# Altium footprint library 118.PcbLib: 1 footprints
Each footprint in its own frame and in the unit in brackets; x right, y up, seen from the top. Pads: shape width x height; smd on the part's side, far side on the other; paste and mask are expansions set on the pad; w line width, h text height; cw(c..) or ccw(c..) is an arc to the next point about the centre after c.
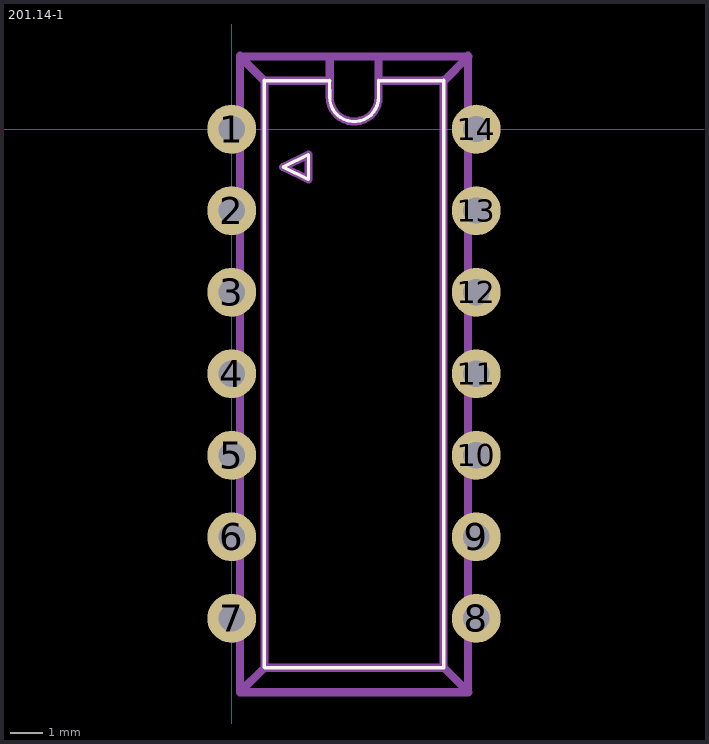
[diagram p0: the footprint, top view; thin cyan lines are the x and y axes]

## 201.14-1 [mm]
pads (14):
  round 1.5 hole 0.8: 1(0,0) 2(0,-2.5) 3(0,-5) 4(0,-7.5) 5(0,-10) 6(0,-12.5) 7(0,-15) 8(7.5,-15) 9(7.5,-12.5) 10(7.5,-10) 11(7.5,-7.5) 12(7.5,-5) 13(7.5,-2.5) 14(7.5,0)
Top Overlay:
  lines w0.1: 1,-16.5 1,1.5 ; 1.004,-16.516 6.504,-16.516 ; 1.004,1.484 3.004,1.484 ; 3,1.5 3.004,0.984 ccw(c3.754,0.984) 4.504,0.984 4.5,1.5 ; 4.504,1.484 6.504,1.484 ; 6.5,-16.5 6.5,1.5 ; 1.576,-1.161 2.352,-1.541 2.352,-0.781 1.576,-1.161
Mechanical 1:
  lines w0.25: -0.2,0 0,0 ; 0.004,-15.316 -0.219,-15.316 -0.219,-15.016 -0.219,-14.716 0.004,-14.716 ; 0.004,-12.816 -0.219,-12.816 -0.219,-12.516 -0.219,-12.216 0.004,-12.216 ; 0.004,-10.316 -0.219,-10.316 -0.219,-10.016 -0.219,-9.716 0.004,-9.716 ; 0.004,-7.816 -0.219,-7.816 -0.219,-7.516 -0.219,-7.216 0.004,-7.216 ; 0.004,-5.316 -0.219,-5.316 -0.219,-5.016 -0.219,-4.716 0.004,-4.716 ; 0.004,-2.816 -0.219,-2.816 -0.219,-2.516 -0.219,-2.216 0.004,-2.216 ; 0.004,-0.316 -0.219,-0.316 -0.219,-0.016 -0.219,0.284 0.004,0.284 ; 0.25,-17.25 0.25,2.25 ; 0.254,-15.616 0.004,-15.616 0.004,-14.416 0.254,-14.416 ; 0.254,-13.116 0.004,-13.116 0.004,-11.916 0.254,-11.916 ; 0.254,-10.616 0.004,-10.616 0.004,-9.416 0.254,-9.416 ; 0.254,-8.116 0.004,-8.116 0.004,-6.916 0.254,-6.916 ; 0.254,-5.616 0.004,-5.616 0.004,-4.416 0.254,-4.416 ; 0.254,-3.116 0.004,-3.116 0.004,-1.916 0.254,-1.916 ; 0.254,-0.616 0.004,-0.616 0.004,0.584 0.254,0.584 ; 1,-16.5 1,1.5 ; 3.004,1.484 1.004,1.484 0.254,2.234 7.254,2.234 6.504,1.484 4.504,1.484 ; 3.004,2.234 3.004,0.984 ccw(c3.754,0.984) 4.504,0.984 4.504,2.234 ; 6.5,-16.5 6.5,1.5 ; 7.25,-17.25 7.25,2.25 ; 7.254,-15.616 7.504,-15.616 7.504,-14.416 7.254,-14.416 ; 7.254,-13.116 7.504,-13.116 7.504,-11.916 7.254,-11.916 ; 7.254,-10.616 7.504,-10.616 7.504,-9.416 7.254,-9.416 ; 7.254,-8.116 7.504,-8.116 7.504,-6.916 7.254,-6.916 ; 7.254,-5.616 7.504,-5.616 7.504,-4.416 7.254,-4.416 ; 7.254,-3.116 7.504,-3.116 7.504,-1.916 7.254,-1.916 ; 7.254,-0.616 7.504,-0.616 7.504,0.584 7.254,0.584 ; 7.504,-15.316 7.727,-15.316 7.727,-15.016 7.727,-14.716 7.504,-14.716 ; 7.504,-12.816 7.727,-12.816 7.727,-12.516 7.727,-12.216 7.504,-12.216 ; 7.504,-10.316 7.727,-10.316 7.727,-10.016 7.727,-9.716 7.504,-9.716 ; 7.504,-7.816 7.727,-7.816 7.727,-7.516 7.727,-7.216 7.504,-7.216 ; 7.504,-5.316 7.727,-5.316 7.727,-5.016 7.727,-4.716 7.504,-4.716 ; 7.504,-2.816 7.727,-2.816 7.727,-2.516 7.727,-2.216 7.504,-2.216 ; 7.504,-0.316 7.727,-0.316 7.727,-0.016 7.727,0.284 7.504,0.284 ; 0.254,-17.266 7.254,-17.266 6.504,-16.516 1.004,-16.516 0.254,-17.266 ; 1.576,-1.161 2.352,-1.541 2.352,-0.781 1.576,-1.161